# Altium footprint library 飞思卡尔封装库.PcbLib: 22 footprints (part 2 of 2)
Each footprint in its own frame and in the unit in brackets; x right, y up, seen from the top. Pads: shape width x height; smd on the part's side, far side on the other; paste and mask are expansions set on the pad; w line width, h text height; cw(c..) or ccw(c..) is an arc to the next point about the centre after c.
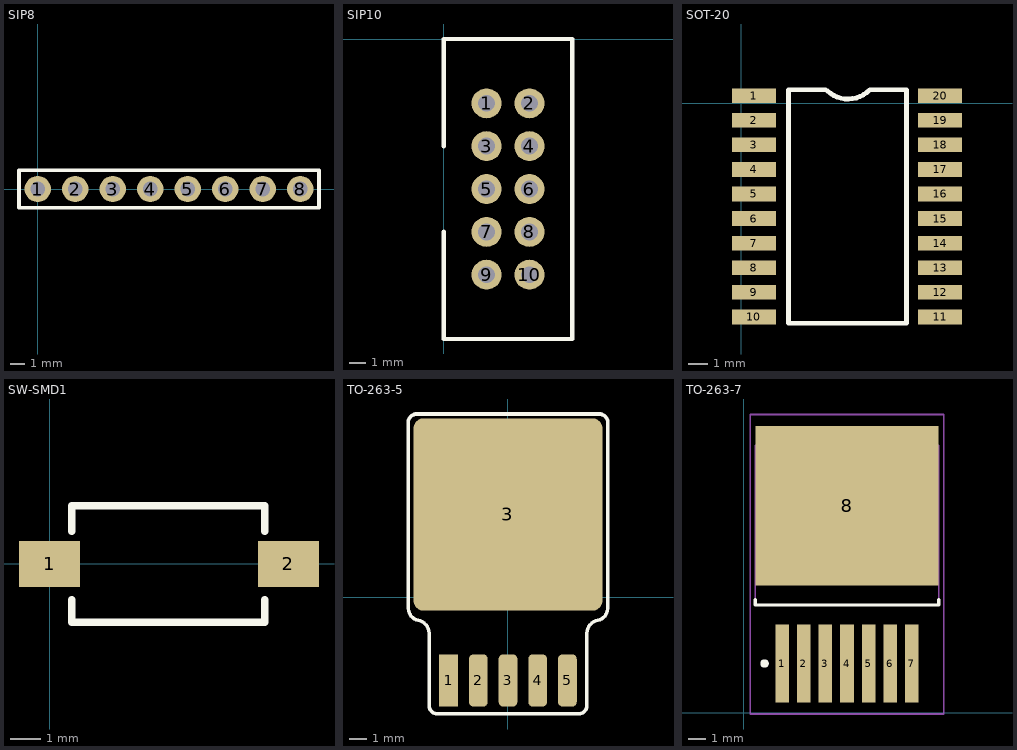
[diagram p1: the footprints below, top view; thin cyan lines are the x and y axes]

## SIP8 [mil]
pads (8):
  round 70 hole 39.37: 1(0,0) 2(100,0) 3(200,0) 4(300,0) 5(400,0) 6(500,0) 7(600,0) 8(700,0)
Top Overlay:
  lines w10: -50,-50 -50,50 750,50 750,-50 -50,-50

## SIP10 [mil]
pads (10):
  round 70 hole 39.37: 1(100,-150) 2(200,-150) 3(100,-250) 4(200,-250) 5(100,-350) 6(200,-350) 7(100,-450) 8(200,-450) 9(100,-550) 10(200,-550)
Top Overlay:
  lines w10: 0,-450 0,-700 300,-700 300,0 0,0 0,-250

## SOT-20 [mil]
pads (20):
  rect 90x30 smd: 1(25.63,15) 2(25.63,-35) 3(25.63,-85) 4(25.63,-135) 5(25.63,-185) 6(25.63,-235) 7(25.63,-285) 8(25.63,-335) 9(25.63,-385) 10(25.63,-435) 11(404.37,-435) 12(404.37,-385) 13(404.37,-335) 14(404.37,-285) 15(404.37,-235) 16(404.37,-185) 17(404.37,-135) 18(404.37,-85) 19(404.37,-35) 20(404.37,15)
Top Overlay:
  lines w10: 171.37,27 96.37,27 96.37,-448 336.37,-448 336.37,27 261.37,27 cw(c217.19,69.19) 175,25

## SW-SMD1 [mm]
pads (2):
  rect 2x1.5 smd: 1(0,0) 2(7.8,0)
Top Overlay:
  lines w0.254: 0.725,-1.168 0.725,-1.9 7.025,-1.9 7.025,-1.168 ; 0.725,1.067 0.725,1.9 7.025,1.9 7.025,1.067
3D body: height 2.5, standoff 0, extent -0.059,-1.945 7.831,1.905

## TO-263-5 [mm]
pads (6):
  rect 1.07x3 smd: 1(-3.4,-4.75)
  rrect50% 1.07x3 smd: 2(-1.7,-4.75) 3(0,-4.75) 4(1.7,-4.75) 5(3.4,-4.75)
  rrect10% 10.8x11 smd: 3(0,4.75)
Top Overlay:
  lines w0.2: -4.512,-6.122 ccw(c-4.028,-6.181) -4.125,-6.659 ; 4.125,-6.659 ccw(c4.028,-6.181) 4.512,-6.122
  lines w0.203: -5.7,10.05 -5.7,-0.53 ccw(c-5.005,-0.615) -5.145,-1.301 cw(c-5.306,-2.084) -4.512,-2.181 -4.512,-6.122 ; -5.7,10.109 cw(c-5.222,10.011) -5.299,10.493 ; -5.3,10.5 5.3,10.5 ; -4.125,-6.659 4.125,-6.659 ; 4.512,-6.122 4.512,-2.181 cw(c5.306,-2.084) 5.145,-1.301 ccw(c5.005,-0.615) 5.7,-0.53 5.7,10.05 ; 5.299,10.493 cw(c5.222,10.011) 5.7,10.109
3D body: height 4.48, standoff 0, extent -5.137,-4.801 5.086,9.55

## TO-263-7 [mm]
pads (8):
  rect 0.8x4.6 smd: 1(2.286,2.913) 2(3.556,2.913) 3(4.826,2.913) 4(6.096,2.913) 5(7.366,2.913) 6(8.636,2.913) 7(9.906,2.913)
  rect 10.8x9.4 smd: 8(6.096,12.213)
Top Overlay:
  circle w0.25: c1.236,2.913 r0.125
  lines w0.2: 0.696,6.663 0.696,6.363 11.496,6.363 11.496,6.663
Mechanical 13:
  lines w0.1: 0.696,6.363 11.496,6.363 11.496,15.763 0.696,15.763 0.696,6.363
Mechanical 15:
  lines w0.1: 5.596,8.763 6.596,8.763 ; 6.096,8.263 6.096,9.263 ; 0.396,-0.062 0.396,17.588 11.796,17.588 11.796,-0.062 0.396,-0.062